# EAGLE library part PI-REV2- (library jt-raspberry-pi)
Raspberry Pi Rev2
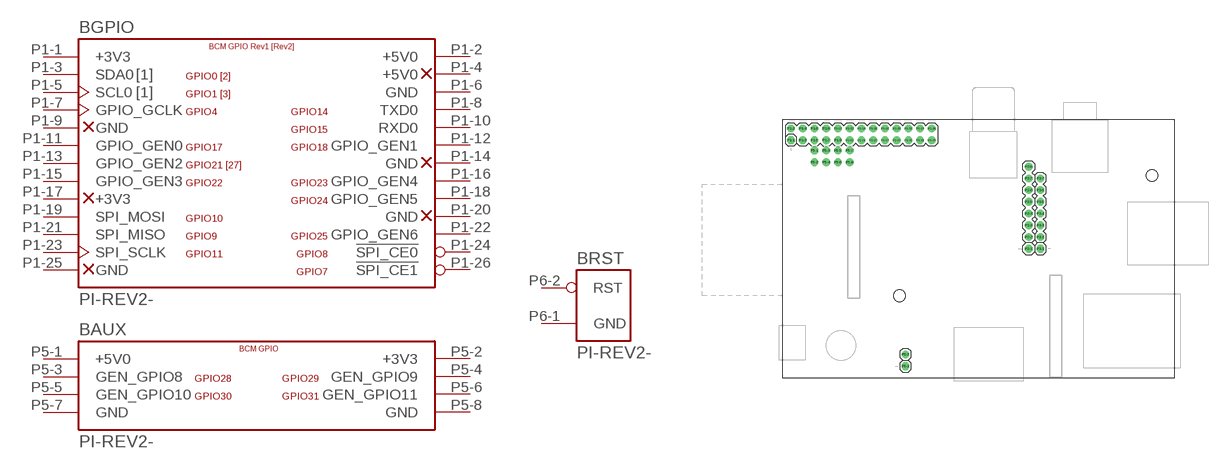
[diagram p1: symbol with the pads of RASPBERRY-PI-REV2; footprint RASPBERRY-PI-REV2]

Designator prefix B; gates GPIO=GPIO AUX=GPIO_AUX RST=RESET

## PI-REV2-BOARD  [RASPBERRY-PI-REV2]
P1-1  GPIO:+3V3  pwr
P1-2  GPIO:+5V0  pwr
P1-3  GPIO:SDA0
P1-4  GPIO:+5V0  nc
P1-5  GPIO:SCL0
P1-6  GPIO:GND  pwr
P1-7  GPIO:GPIO_GCLK
P1-8  GPIO:TXD0
P1-9  GPIO:GND  nc
P1-10  GPIO:RXD0
P1-11  GPIO:GPIO_GEN0
P1-12  GPIO:GPIO_GEN1
P1-13  GPIO:GPIO_GEN2
P1-14  GPIO:GND  nc
P1-15  GPIO:GPIO_GEN3
P1-16  GPIO:GPIO_GEN4
P1-17  GPIO:+3V3  nc
P1-18  GPIO:GPIO_GEN5
P1-19  GPIO:SPI_MOSI
P1-20  GPIO:GND  nc
P1-21  GPIO:SPI_MISO
P1-22  GPIO:GPIO_GEN6
P1-23  GPIO:SPI_SCLK
P1-24  GPIO:!SPI_CE0
P1-25  GPIO:GND  nc
P1-26  GPIO:!SPI_CE1
P5-1  AUX:+5V0  pwr
P5-2  AUX:+3V3  pwr
P5-3  AUX:GEN_GPIO8
P5-4  AUX:GEN_GPIO9
P5-5  AUX:GEN_GPIO10
P5-6  AUX:GEN_GPIO11
P5-7  AUX:GND  pwr
P5-8  AUX:GND  pwr
P6-1  RST:GND  pwr
P6-2  RST:RST

## Footprint RASPBERRY-PI-REV2 (pad centres in mm)
Raspberry Pi Rev2
drill 1.016 pad 1.676 octagon: P1-1 1.905,51.435; P2-1 53.34,27.94; P3-1 55.88,27.94
drill 1.016 pad 1.676: P1-2 1.905,53.975; P1-3 4.445,51.435; P1-4 4.445,53.975; P1-5 6.985,51.435; P1-6 6.985,53.975; P1-7 9.525,51.435; P1-8 9.525,53.975; P1-9 12.065,51.435; P1-10 12.065,53.975; P1-11 14.605,51.435; P1-12 14.605,53.975; P1-13 17.145,51.435; P1-14 17.145,53.975; P1-15 19.685,51.435; P1-16 19.685,53.975; P1-17 22.225,51.435; P1-18 22.225,53.975; P1-19 24.765,51.435; P1-20 24.765,53.975; P1-21 27.305,51.435; P1-22 27.305,53.975; P1-23 29.845,51.435; P1-24 29.845,53.975; P1-25 32.385,51.435; P1-26 32.385,53.975; P2-2 53.34,30.48; P2-3 53.34,33.02; P2-4 53.34,35.56; P2-5 53.34,38.1; P2-6 53.34,40.64; P2-7 53.34,43.18; P2-8 53.34,45.72; P3-2 55.88,30.48; P3-3 55.88,33.02; P3-4 55.88,35.56; P3-5 55.88,38.1; P3-6 55.88,40.64; P3-7 55.88,43.18
drill 1 pad 1.676 octagon: P5-1 6.985,49.212; P6-1 26.67,2.54
drill 1 pad 1.676: P5-2 6.985,46.672; P5-3 9.525,49.212; P5-4 9.525,46.672; P5-5 12.065,49.212; P5-6 12.065,46.672; P5-7 14.605,49.212; P5-8 14.605,46.672; P6-2 26.67,5.08
hole 2.5 at 25.4,17.78
hole 2.5 at 80.01,43.815